# EAGLE library part SN65HVD3082ED (library SN65HVD3082ED)
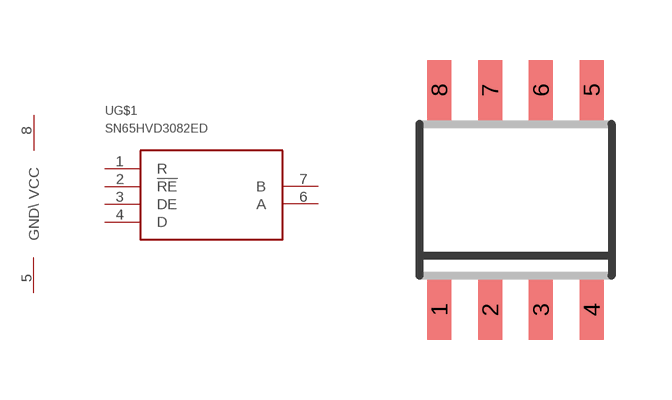
[diagram p0: symbol with the pads of SOIC8; footprint SOIC8]

Designator prefix U; gates SUPPLY=SUPPLY G$1=SN65HVD3082

## SN65HVD3082ED  [SOIC8]
1  G$1:R
2  G$1:!RE
3  G$1:DE
4  G$1:D
5  SUPPLY:GND\
6  G$1:A
7  G$1:B
8  SUPPLY:VCC

## Footprint SOIC8 (pad centres in mm)
SOIC-8 CASE 751-07 Source: http://www.onsemi.com/pub/Collateral/MC34164-D.PDF D (R-PDSO-G8)PLATIC SMALL-OUTLINE PACKAGE Source: http://focus.ti.com/lit/ds/symlink/tlc27l2.pdf
smd 0.6 x 1.5: 1 -1.905,-2.75; 2 -0.635,-2.75; 3 0.635,-2.75; 4 1.905,-2.75; 5 1.905,2.75; 6 0.635,2.75; 7 -0.635,2.75; 8 -1.905,2.75